# EAGLE library part DS3231 (library Semiconductors > Integrated Circuits - ICs > Clock & Timer ICs > Real Time Clock)
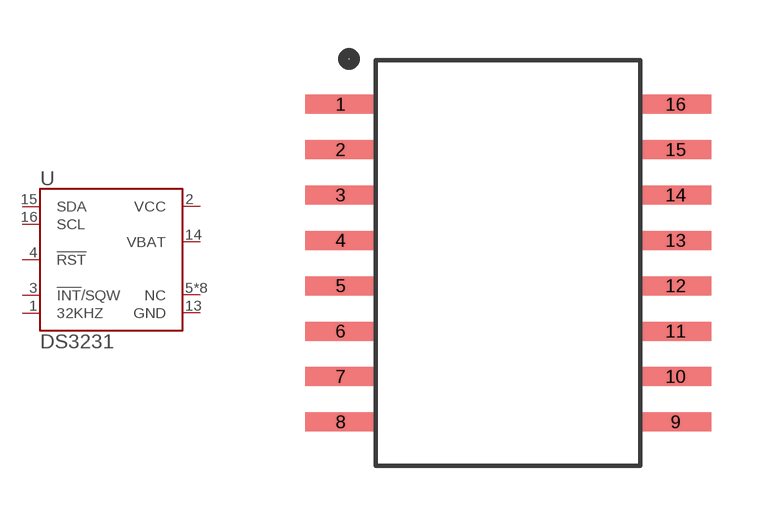
[diagram p0: symbol with the pads of SOIC-16; footprint SOIC-16]

Designator prefix U

## DS3231  [SOIC-16]
1  32KHZ
2  VCC
3  !INT!/SQW
4  !RST
5  NC
6  NC
7  NC
8  NC
9  NC
10  NC
11  NC
12  NC
13  GND
14  VBAT
15  SDA
16  SCL

## Footprint SOIC-16 (pad centres in mm)
smd 1.98 x 0.53: 1 -4.685,4.445; 2 -4.685,3.175; 3 -4.685,1.905; 4 -4.685,0.635; 5 -4.685,-0.635; 6 -4.685,-1.905; 7 -4.685,-3.175; 8 -4.685,-4.445; 9 4.685,-4.445; 10 4.685,-3.175; 11 4.685,-1.905; 12 4.685,-0.635; 13 4.685,0.635; 14 4.685,1.905; 15 4.685,3.175; 16 4.685,4.445